# Altium schematic symbol library Base.SchLib: 4 symbols
Pins are listed as number, name and electrical type; pins without a type are passive.

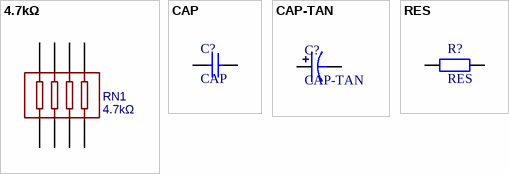
[diagram p0: symbols 4.7kΩ to RES]

## 4.7kΩ
designator RN1
BOM_Manufacturer: RALEC; BOM_Manufacturer Part: RTA02-4D472JTH; nameAlias: Resistance; Resistance (Ohms): 4.7K; BOM_Supplier: LCSC; BOM_Supplier Part: C102638; BOM_JLCPCB Part Class: Extended Part; spicePre: R; spiceSymbolName: RTA02-4D472JTH
footprint RES-ARRAY-SMD_0402-8P-L2.0-W1.0-BL
footprint RES-1206 (网络排阻)
pins: 1, 2, 3, 4, 5, 6, 7, 8

## CAP
designator C?
贴片陶瓷电容
footprint Cap-0603
footprint Cap-0805
footprint CAP-0402
pins: 1, 2

## CAP-TAN
designator C?
钽电容
footprint CAP_TAN_3216_A
footprint CAP_TAN_3528_B
footprint CAP_TAN_6032_C
footprint CAP_TAN_7343_D
pins: 1, 2

## RES
designator R?
贴片电阻
footprint R-0603 (贴片电阻)
footprint R-0805 (贴片电阻)
footprint R-0402 (贴片电阻)
pins: 1, 2